# Altium schematic symbol library finalSchlib.SchLib: 17 symbols
Pins are listed as number, name and electrical type; pins without a type are passive.

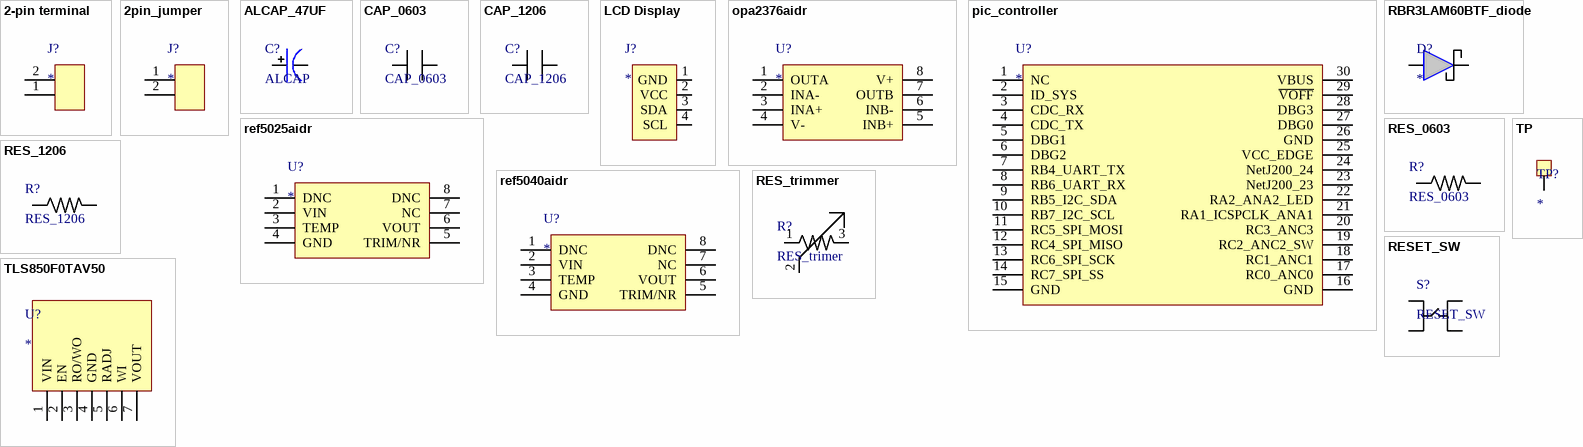
[diagram p0: symbols 2-pin terminal to TP]

## 2-pin terminal
designator J?
footprint 2-pin terminal
pins: 1, 2

## 2pin_jumper
designator J?
footprint 2pin_jumper
pins: 1, 2

## ALCAP_47UF
designator C?, comment ALCAP
ComponentLink1Description: EEUFR1J470; ComponentLink1URL: https://www.digikey.com/product-detail/en/panasonic-electronic-components/EEU-FR1J470/P15400-ND/3072280
footprint 47u_cap
pins: 1, 2

## CAP_0603
designator C?
ComponentLink1Description: C0603C105K4RACTU; ComponentLink1URL: https://www.digikey.com/product-detail/en/kemet/C0603C105K4RACTU/399-7847-1-ND/3471570
footprint CAP_0603 (Chip Capacitor, 2-Leads, Body 1.60x0.80mm, IPC Medium Density)
pins: 1, 2

## CAP_1206
designator C?
ComponentLink1Description: C1206C104K5RAC7800; ComponentLink1URL: https://www.digikey.com/product-detail/en/kemet/C1206C104K5RAC7800/399-C1206C104K5RAC7800CT-ND/411524
footprint CAPC3216X10M (Chip Capacitor, 2-Leads, Body 3.20x1.60mm, IPC Low Density)
pins: 1, 2

## LCD Display
designator J?
footprint LCD Display
pins: 1 GND, 2 VCC, 3 SDA, 4 SCL

## opa2376aidr
designator U?
ComponentLink1Description: opa2376aidr; ComponentLink1URL: https://www.digikey.com/product-detail/en/texas-instruments/OPA2376AIDR/296-22564-1-ND/1669056
footprint opa2376aidr (SOIC, 8-Leads, Body 4.91x3.90mm, Pitch 1.27mm, IPC Medium Density)
pins: 1 OUTA, 2 INA-, 3 INA+, 4 V-, 5 INB+, 6 INB-, 7 OUTB, 8 V+

## pic_controller
designator U?
footprint nano
pins: 1 NC, 2 ID_SYS, 3 CDC_RX, 4 CDC_TX, 5 DBG1, 6 DBG2, 7 RB4_UART_TX, 8 RB6_UART_RX, 9 RB5_I2C_SDA, 10 RB7_I2C_SCL, 11 RC5_SPI_MOSI, 12 RC4_SPI_MISO, 13 RC6_SPI_SCK, 14 RC7_SPI_SS, 15 GND, 16 GND, 17 RC0_ANC0, 18 RC1_ANC1, 19 RC2_ANC2_SW, 20 RC3_ANC3, 21 RA1_ICSPCLK_ANA1, 22 RA2_ANA2_LED, 23 NetJ200_23, 24 NetJ200_24, 25 VCC_EDGE, 26 GND, 27 DBG0, 28 DBG3, 29 ~{VOFF}, 30 VBUS

## RBR3LAM60BTF_diode
designator D?
ComponentLink1Description: RBR3LAM60BTF; ComponentLink1URL: https://www.digikey.com/product-detail/en/rohm-semiconductor/RBR3LAM60BTFTR/RBR3LAM60BTFCT-ND/8702638
footprint RBR3LAM60BTF_diode (SODFL, 2-Leads, Body 2.50x4.70mm, IPC Medium Density)
pins: 1, 2

## ref5025aidr
designator U?
ComponentLink1Description: ref5025aidr; ComponentLink1URL: https://www.digikey.com/product-detail/en/texas-instruments/REF5025AIDR/296-39165-1-ND/5143174
footprint ref5040aidr (SOIC, 8-Leads, Body 4.91x3.90mm, Pitch 1.27mm, IPC Medium Density)
pins: 1 DNC, 2 VIN, 3 TEMP, 4 GND, 5 TRIM/NR, 6 VOUT, 7 NC, 8 DNC

## ref5040aidr
designator U?
ComponentLink1Description: ref5040aidr; ComponentLink1URL: https://www.digikey.com/product-detail/en/texas-instruments/REF5040AIDR/296-46190-1-ND/7033365
footprint ref5040aidr (SOIC, 8-Leads, Body 4.91x3.90mm, Pitch 1.27mm, IPC Medium Density)
pins: 1 DNC, 2 VIN, 3 TEMP, 4 GND, 5 TRIM/NR, 6 VOUT, 7 NC, 8 DNC

## RES_0603
designator R?
RES_0603 1/8 W
footprint RES_0603 (Chip Resistor, 2-Leads, Body 1.60x0.80mm, IPC Medium Density)
pins: 1, 2

## RES_1206
designator R?
footprint RESC3216X10M (Chip Resistor, 2-Leads, Body 3.20x1.60mm, IPC Low Density)
pins: 1, 2

## RES_trimmer
designator R?, comment RES_trimer
ComponentLink1Description: 3362U-1-201LF; ComponentLink1URL: https://www.digikey.com/product-detail/en/bourns-inc/3362U-1-201LF/3362U-201LF-ND/1088439
footprint trimmer
pins: 1, 2, 3

## RESET_SW
designator S?
ComponentLink1Description: 450-1650-ND; ComponentLink1URL: https://www.digikey.com/product-detail/en/te-connectivity-alcoswitch-switches/1825910-6/450-1650-ND/1632536
footprint RST_SW
pins: 1, 2, 3, 4

## TLS850F0TAV50
designator U?
ComponentLink1Description: TLS850F0TAV50; ComponentLink1URL: https://www.digikey.com/product-detail/en/infineon-technologies/TLS850F0TAV50ATMA1/TLS850F0TAV50ATMA1CT-ND/5824338
footprint TLS850F0TAV50
pins: 1 VIN, 2 EN, 3 RO/WO, 4 GND, 5 RADJ, 6 WI, 7 VOUT

## TP
designator TP?
footprint TP
pins: 1